# Altium schematic symbol library SCH - MCU - SI LABS - SI LABS EFR32MG24A110F1536GM48 48-PIN QFN 6X6.SchLib: 1 symbol
Pins are listed as number, name and electrical type; pins without a type are passive.

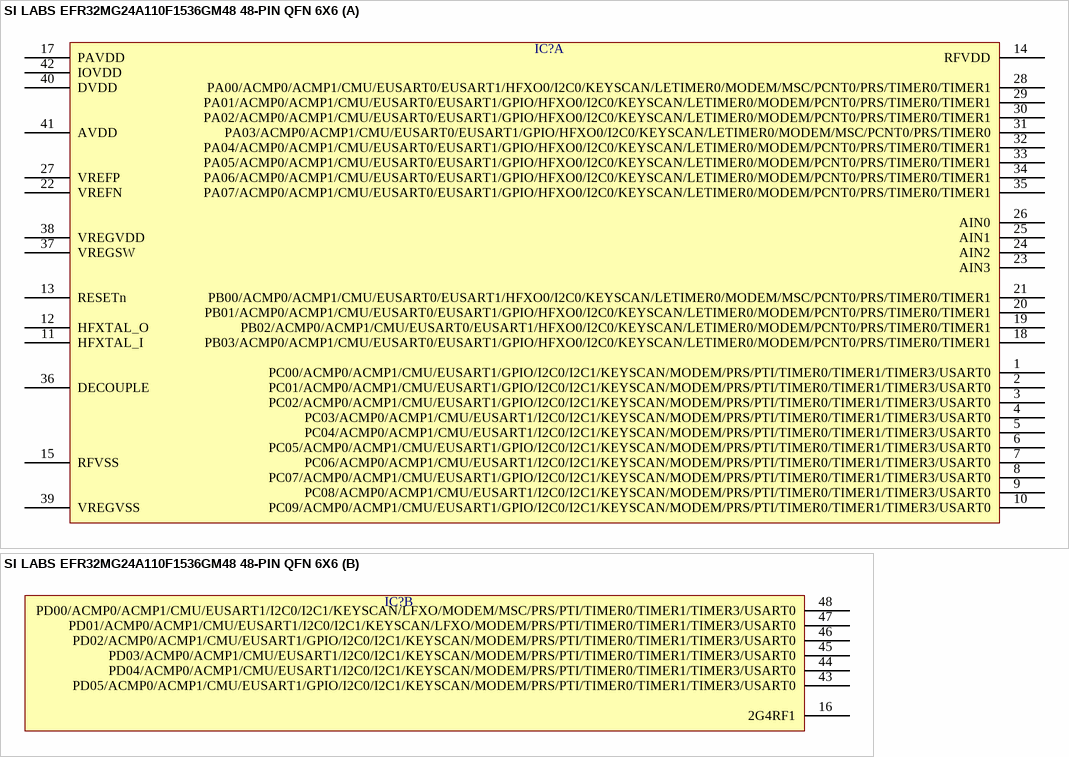
[diagram p0: symbol SI LABS EFR32MG24A110F1536GM48 48-PIN QFN 6X6]

## SI LABS EFR32MG24A110F1536GM48 48-PIN QFN 6X6
designator IC?  (value not drawn)
part A pins: 1 PC00/ACMP0/ACMP1/CMU/EUSART1/GPIO/I2C0/I2C1/KEYSCAN/MODEM/PRS/PTI/TIMER0/TIMER1/TIMER3/USART0, 2 PC01/ACMP0/ACMP1/CMU/EUSART1/GPIO/I2C0/I2C1/KEYSCAN/MODEM/PRS/PTI/TIMER0/TIMER1/TIMER3/USART0, 3 PC02/ACMP0/ACMP1/CMU/EUSART1/GPIO/I2C0/I2C1/KEYSCAN/MODEM/PRS/PTI/TIMER0/TIMER1/TIMER3/USART0, 4 PC03/ACMP0/ACMP1/CMU/EUSART1/I2C0/I2C1/KEYSCAN/MODEM/PRS/PTI/TIMER0/TIMER1/TIMER3/USART0, 5 PC04/ACMP0/ACMP1/CMU/EUSART1/I2C0/I2C1/KEYSCAN/MODEM/PRS/PTI/TIMER0/TIMER1/TIMER3/USART0, 6 PC05/ACMP0/ACMP1/CMU/EUSART1/GPIO/I2C0/I2C1/KEYSCAN/MODEM/PRS/PTI/TIMER0/TIMER1/TIMER3/USART0, 7 PC06/ACMP0/ACMP1/CMU/EUSART1/I2C0/I2C1/KEYSCAN/MODEM/PRS/PTI/TIMER0/TIMER1/TIMER3/USART0, 8 PC07/ACMP0/ACMP1/CMU/EUSART1/GPIO/I2C0/I2C1/KEYSCAN/MODEM/PRS/PTI/TIMER0/TIMER1/TIMER3/USART0, 9 PC08/ACMP0/ACMP1/CMU/EUSART1/I2C0/I2C1/KEYSCAN/MODEM/PRS/PTI/TIMER0/TIMER1/TIMER3/USART0, 10 PC09/ACMP0/ACMP1/CMU/EUSART1/GPIO/I2C0/I2C1/KEYSCAN/MODEM/PRS/PTI/TIMER0/TIMER1/TIMER3/USART0, 11 HFXTAL_I, 12 HFXTAL_O, 13 RESETn, 14 RFVDD, 15 RFVSS, 17 PAVDD, 18 PB03/ACMP0/ACMP1/CMU/EUSART0/EUSART1/GPIO/HFXO0/I2C0/KEYSCAN/LETIMER0/MODEM/PCNT0/PRS/TIMER0/TIMER1, 19 PB02/ACMP0/ACMP1/CMU/EUSART0/EUSART1/HFXO0/I2C0/KEYSCAN/LETIMER0/MODEM/PCNT0/PRS/TIMER0/TIMER1, 20 PB01/ACMP0/ACMP1/CMU/EUSART0/EUSART1/GPIO/HFXO0/I2C0/KEYSCAN/LETIMER0/MODEM/PCNT0/PRS/TIMER0/TIMER1, 21 PB00/ACMP0/ACMP1/CMU/EUSART0/EUSART1/HFXO0/I2C0/KEYSCAN/LETIMER0/MODEM/MSC/PCNT0/PRS/TIMER0/TIMER1, 22 VREFN, 23 AIN3, 24 AIN2, 25 AIN1, 26 AIN0, 27 VREFP, 28 PA00/ACMP0/ACMP1/CMU/EUSART0/EUSART1/HFXO0/I2C0/KEYSCAN/LETIMER0/MODEM/MSC/PCNT0/PRS/TIMER0/TIMER1, 29 PA01/ACMP0/ACMP1/CMU/EUSART0/EUSART1/GPIO/HFXO0/I2C0/KEYSCAN/LETIMER0/MODEM/PCNT0/PRS/TIMER0/TIMER1, 30 PA02/ACMP0/ACMP1/CMU/EUSART0/EUSART1/GPIO/HFXO0/I2C0/KEYSCAN/LETIMER0/MODEM/PCNT0/PRS/TIMER0/TIMER1, 31 PA03/ACMP0/ACMP1/CMU/EUSART0/EUSART1/GPIO/HFXO0/I2C0/KEYSCAN/LETIMER0/MODEM/MSC/PCNT0/PRS/TIMER0, 32 PA04/ACMP0/ACMP1/CMU/EUSART0/EUSART1/GPIO/HFXO0/I2C0/KEYSCAN/LETIMER0/MODEM/PCNT0/PRS/TIMER0/TIMER1, 33 PA05/ACMP0/ACMP1/CMU/EUSART0/EUSART1/GPIO/HFXO0/I2C0/KEYSCAN/LETIMER0/MODEM/PCNT0/PRS/TIMER0/TIMER1, 34 PA06/ACMP0/ACMP1/CMU/EUSART0/EUSART1/GPIO/HFXO0/I2C0/KEYSCAN/LETIMER0/MODEM/PCNT0/PRS/TIMER0/TIMER1, 35 PA07/ACMP0/ACMP1/CMU/EUSART0/EUSART1/GPIO/HFXO0/I2C0/KEYSCAN/LETIMER0/MODEM/PCNT0/PRS/TIMER0/TIMER1, 36 DECOUPLE, 37 VREGSW, 38 VREGVDD, 39 VREGVSS, 40 DVDD, 41 AVDD, 42 IOVDD
part B pins: 16 2G4RF1, 43 PD05/ACMP0/ACMP1/CMU/EUSART1/GPIO/I2C0/I2C1/KEYSCAN/MODEM/PRS/PTI/TIMER0/TIMER1/TIMER3/USART0, 44 PD04/ACMP0/ACMP1/CMU/EUSART1/I2C0/I2C1/KEYSCAN/MODEM/PRS/PTI/TIMER0/TIMER1/TIMER3/USART0, 45 PD03/ACMP0/ACMP1/CMU/EUSART1/I2C0/I2C1/KEYSCAN/MODEM/PRS/PTI/TIMER0/TIMER1/TIMER3/USART0, 46 PD02/ACMP0/ACMP1/CMU/EUSART1/GPIO/I2C0/I2C1/KEYSCAN/MODEM/PRS/PTI/TIMER0/TIMER1/TIMER3/USART0, 47 PD01/ACMP0/ACMP1/CMU/EUSART1/I2C0/I2C1/KEYSCAN/LFXO/MODEM/PRS/PTI/TIMER0/TIMER1/TIMER3/USART0, 48 PD00/ACMP0/ACMP1/CMU/EUSART1/I2C0/I2C1/KEYSCAN/LFXO/MODEM/MSC/PRS/PTI/TIMER0/TIMER1/TIMER3/USART0